# Altium schematic symbol library spacemonochrome-WR_TBL.SchLib: 1696 symbols (part 26 of 28)
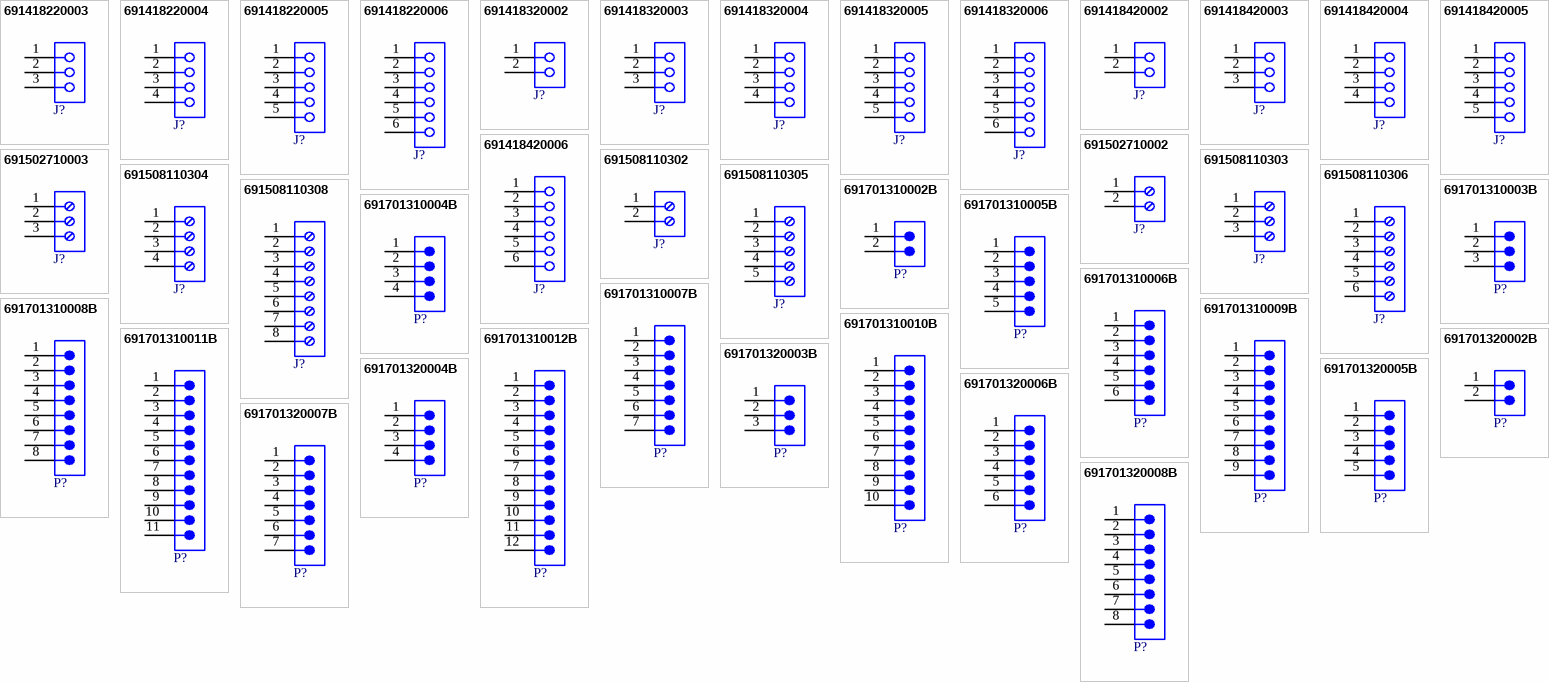
[diagram p67: symbols 691418220003 to 691701320008B]

## 691701320005B
designator P?  (value not drawn)
WR-TBL Series 7013 Vertical PCB Header with Flanges, SMT, pitch 3.81mm, 5p; Manufacturer: Wurth Elektronik; Modularity: No; Rated Current: 10A; Working Voltage: 300V; ComponentLink1Description: Website Link; ComponentLink1URL: https://www.we-online.com/redexpert/article/691701320005B?ad; ComponentLink2Description: Datasheet Link; ComponentLink2URL: https://www.we-online.com/redexpert/spec/691701320005B?ad; Manufacturer Part Number: 691701320005B; Category: Terminal Blocks; Match Code: WR-TBL; Mount: Surface Mount; Operating Temperature Max: 105°C; Operating Temperature Min: -40°C; Packaging: Box; Application: Pluggable; Number of Pins: 5; Number of Rows: 1; Orientation: Vertical; Pitch: 3.81mm
footprint 691701320005B
pins: 1, 2, 3, 4, 5

## 691701320006B
designator P?  (value not drawn)
WR-TBL Series 7013 Vertical PCB Header with Flanges, SMT, pitch 3.81mm, 6p; Manufacturer: Wurth Elektronik; Modularity: No; Rated Current: 10A; Working Voltage: 300V; ComponentLink1Description: Website Link; ComponentLink1URL: https://www.we-online.com/redexpert/article/691701320006B?ad; ComponentLink2Description: Datasheet Link; ComponentLink2URL: https://www.we-online.com/redexpert/spec/691701320006B?ad; Manufacturer Part Number: 691701320006B; Category: Terminal Blocks; Match Code: WR-TBL; Mount: Surface Mount; Operating Temperature Max: 105°C; Operating Temperature Min: -40°C; Packaging: Box; Application: Pluggable; Number of Pins: 6; Number of Rows: 1; Orientation: Vertical; Pitch: 3.81mm
footprint 691701320006B
pins: 1, 2, 3, 4, 5, 6

## 691701320007B
designator P?  (value not drawn)
WR-TBL Series 7013 Vertical PCB Header with Flanges, SMT, pitch 3.81mm, 7p; Manufacturer: Wurth Elektronik; Modularity: No; Rated Current: 10A; Working Voltage: 300V; ComponentLink1Description: Website Link; ComponentLink1URL: https://www.we-online.com/redexpert/article/691701320007B?ad; ComponentLink2Description: Datasheet Link; ComponentLink2URL: https://www.we-online.com/redexpert/spec/691701320007B?ad; Manufacturer Part Number: 691701320007B; Category: Terminal Blocks; Match Code: WR-TBL; Mount: Surface Mount; Operating Temperature Max: 105°C; Operating Temperature Min: -40°C; Packaging: Box; Application: Pluggable; Number of Pins: 7; Number of Rows: 1; Orientation: Vertical; Pitch: 3.81mm
footprint 691701320007B
pins: 1, 2, 3, 4, 5, 6, 7

## 691701320008B
designator P?  (value not drawn)
WR-TBL Series 7013 Vertical PCB Header with Flanges, SMT, pitch 3.81mm, 8p; Manufacturer: Wurth Elektronik; Modularity: No; Rated Current: 10A; Working Voltage: 300V; ComponentLink1Description: Website Link; ComponentLink1URL: https://www.we-online.com/redexpert/article/691701320008B?ad; ComponentLink2Description: Datasheet Link; ComponentLink2URL: https://www.we-online.com/redexpert/spec/691701320008B?ad; Manufacturer Part Number: 691701320008B; Category: Terminal Blocks; Match Code: WR-TBL; Mount: Surface Mount; Operating Temperature Max: 105°C; Operating Temperature Min: -40°C; Packaging: Box; Application: Pluggable; Number of Pins: 8; Number of Rows: 1; Orientation: Vertical; Pitch: 3.81mm
footprint 691701320008B
pins: 1, 2, 3, 4, 5, 6, 7, 8

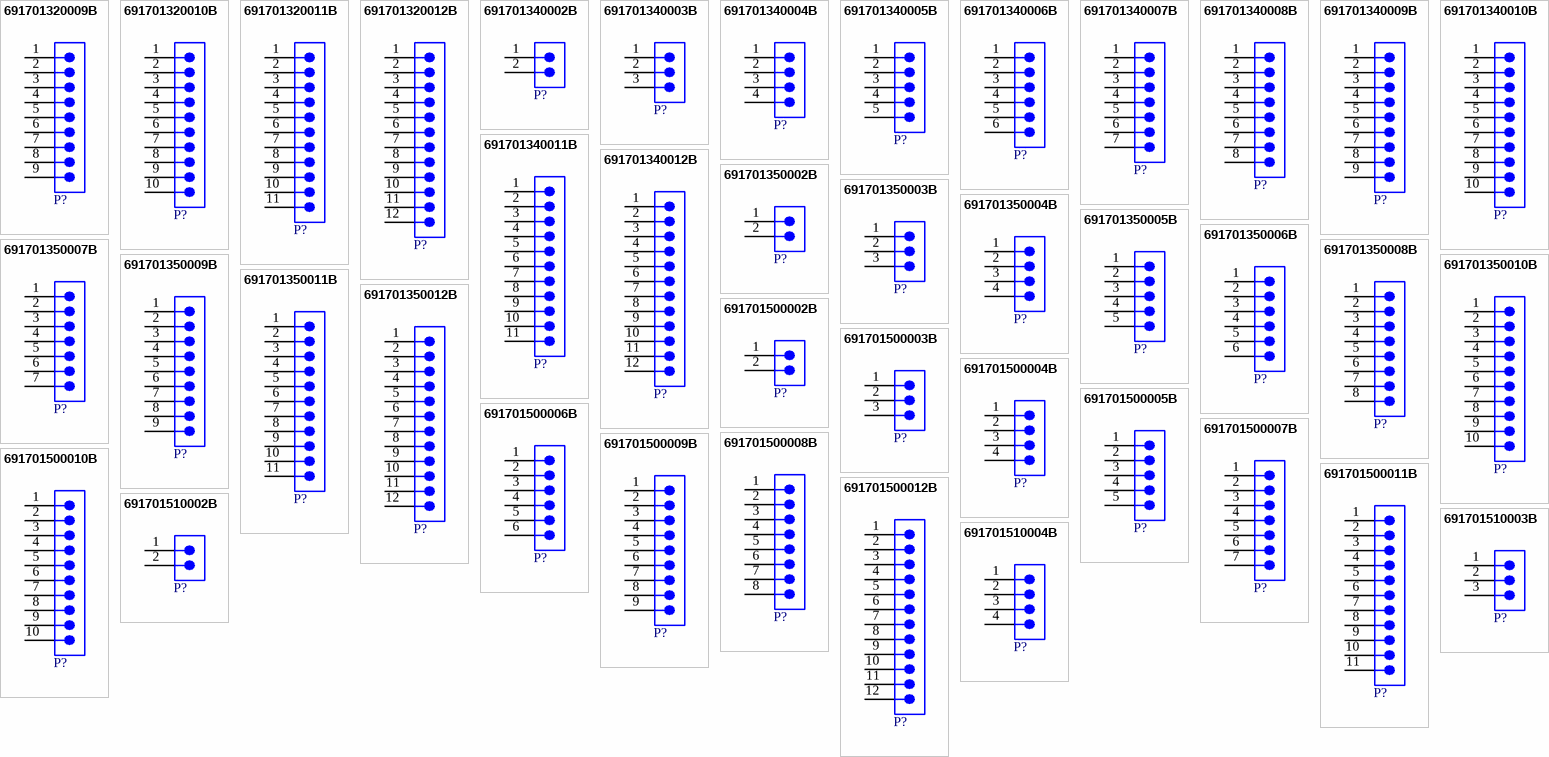
[diagram p39: symbols 691701320009B to 691701510004B]

## 691701320009B
designator P?  (value not drawn)
WR-TBL Series 7013 Vertical PCB Header with Flanges, SMT, pitch 3.81mm, 9p; Manufacturer: Wurth Elektronik; Modularity: No; Rated Current: 10A; Working Voltage: 300V; ComponentLink1Description: Website Link; ComponentLink1URL: https://www.we-online.com/redexpert/article/691701320009B?ad; ComponentLink2Description: Datasheet Link; ComponentLink2URL: https://www.we-online.com/redexpert/spec/691701320009B?ad; Manufacturer Part Number: 691701320009B; Category: Terminal Blocks; Match Code: WR-TBL; Mount: Surface Mount; Operating Temperature Max: 105°C; Operating Temperature Min: -40°C; Packaging: Box; Application: Pluggable; Number of Pins: 9; Number of Rows: 1; Orientation: Vertical; Pitch: 3.81mm
footprint 691701320009B
pins: 1, 2, 3, 4, 5, 6, 7, 8, 9

## 691701320010B
designator P?  (value not drawn)
WR-TBL Series 7013 Vertical PCB Header with Flanges, SMT, pitch 3.81mm, 10p; Manufacturer: Wurth Elektronik; Modularity: No; Rated Current: 10A; Working Voltage: 300V; ComponentLink1Description: Website Link; ComponentLink1URL: https://www.we-online.com/redexpert/article/691701320010B?ad; ComponentLink2Description: Datasheet Link; ComponentLink2URL: https://www.we-online.com/redexpert/spec/691701320010B?ad; Manufacturer Part Number: 691701320010B; Category: Terminal Blocks; Match Code: WR-TBL; Mount: Surface Mount; Operating Temperature Max: 105°C; Operating Temperature Min: -40°C; Packaging: Box; Application: Pluggable; Number of Pins: 10; Number of Rows: 1; Orientation: Vertical; Pitch: 3.81mm
footprint 691701320010B
pins: 1, 2, 3, 4, 5, 6, 7, 8, 9, 10

## 691701320011B
designator P?  (value not drawn)
WR-TBL Series 7013 Vertical PCB Header with Flanges, SMT, pitch 3.81mm, 11p; Manufacturer: Wurth Elektronik; Modularity: No; Rated Current: 10A; Working Voltage: 300V; ComponentLink1Description: Website Link; ComponentLink1URL: https://www.we-online.com/redexpert/article/691701320011B?ad; ComponentLink2Description: Datasheet Link; ComponentLink2URL: https://www.we-online.com/redexpert/spec/691701320011B?ad; Manufacturer Part Number: 691701320011B; Category: Terminal Blocks; Match Code: WR-TBL; Mount: Surface Mount; Operating Temperature Max: 105°C; Operating Temperature Min: -40°C; Packaging: Box; Application: Pluggable; Number of Pins: 11; Number of Rows: 1; Orientation: Vertical; Pitch: 3.81mm
footprint 691701320011B
pins: 1, 2, 3, 4, 5, 6, 7, 8, 9, 10, 11

## 691701320012B
designator P?  (value not drawn)
WR-TBL Series 7013 Vertical PCB Header with Flanges, SMT, pitch 3.81mm, 12p; Manufacturer: Wurth Elektronik; Modularity: No; Rated Current: 10A; Working Voltage: 300V; ComponentLink1Description: Website Link; ComponentLink1URL: https://www.we-online.com/redexpert/article/691701320012B?ad; ComponentLink2Description: Datasheet Link; ComponentLink2URL: https://www.we-online.com/redexpert/spec/691701320012B?ad; Manufacturer Part Number: 691701320012B; Category: Terminal Blocks; Match Code: WR-TBL; Mount: Surface Mount; Operating Temperature Max: 105°C; Operating Temperature Min: -40°C; Packaging: Box; Application: Pluggable; Number of Pins: 12; Number of Rows: 1; Orientation: Vertical; Pitch: 3.81mm
footprint 691701320012B
pins: 1, 2, 3, 4, 5, 6, 7, 8, 9, 10, 11, 12

## 691701340002B
designator P?  (value not drawn)
WR-TBL Series 7013 Horizontal PCB Header, SMT, pitch 3.81mm, 2p; Manufacturer: Wurth Elektronik; Modularity: No; Rated Current: 10A; Working Voltage: 300V; ComponentLink1Description: Website Link; ComponentLink1URL: https://www.we-online.com/redexpert/article/691701340002B?ad; ComponentLink2Description: Datasheet Link; ComponentLink2URL: https://www.we-online.com/redexpert/spec/691701340002B?ad; Manufacturer Part Number: 691701340002B; Category: Terminal Blocks; Match Code: WR-TBL; Mount: Surface Mount; Operating Temperature Max: 105°C; Operating Temperature Min: -40°C; Packaging: Box; Application: Pluggable; Number of Pins: 2; Number of Rows: 1; Orientation: Horizontal; Pitch: 3.81mm
footprint 691701340002B
pins: 1, 2

## 691701340003B
designator P?  (value not drawn)
WR-TBL Series 7013 Horizontal PCB Header, SMT, pitch 3.81mm, 3p; Manufacturer: Wurth Elektronik; Modularity: No; Rated Current: 10A; Working Voltage: 300V; ComponentLink1Description: Website Link; ComponentLink1URL: https://www.we-online.com/redexpert/article/691701340003B?ad; ComponentLink2Description: Datasheet Link; ComponentLink2URL: https://www.we-online.com/redexpert/spec/691701340003B?ad; Manufacturer Part Number: 691701340003B; Category: Terminal Blocks; Match Code: WR-TBL; Mount: Surface Mount; Operating Temperature Max: 105°C; Operating Temperature Min: -40°C; Packaging: Box; Application: Pluggable; Number of Pins: 3; Number of Rows: 1; Orientation: Horizontal; Pitch: 3.81mm
footprint 691701340003B
pins: 1, 2, 3

## 691701340004B
designator P?  (value not drawn)
WR-TBL Series 7013 Horizontal PCB Header, SMT, pitch 3.81mm, 4p; Manufacturer: Wurth Elektronik; Modularity: No; Rated Current: 10A; Working Voltage: 300V; ComponentLink1Description: Website Link; ComponentLink1URL: https://www.we-online.com/redexpert/article/691701340004B?ad; ComponentLink2Description: Datasheet Link; ComponentLink2URL: https://www.we-online.com/redexpert/spec/691701340004B?ad; Manufacturer Part Number: 691701340004B; Category: Terminal Blocks; Match Code: WR-TBL; Mount: Surface Mount; Operating Temperature Max: 105°C; Operating Temperature Min: -40°C; Packaging: Box; Application: Pluggable; Number of Pins: 4; Number of Rows: 1; Orientation: Horizontal; Pitch: 3.81mm
footprint 691701340004B
pins: 1, 2, 3, 4

## 691701340005B
designator P?  (value not drawn)
WR-TBL Series 7013 Horizontal PCB Header, SMT, pitch 3.81mm, 5p; Manufacturer: Wurth Elektronik; Modularity: No; Rated Current: 10A; Working Voltage: 300V; ComponentLink1Description: Website Link; ComponentLink1URL: https://www.we-online.com/redexpert/article/691701340005B?ad; ComponentLink2Description: Datasheet Link; ComponentLink2URL: https://www.we-online.com/redexpert/spec/691701340005B?ad; Manufacturer Part Number: 691701340005B; Category: Terminal Blocks; Match Code: WR-TBL; Mount: Surface Mount; Operating Temperature Max: 105°C; Operating Temperature Min: -40°C; Packaging: Box; Application: Pluggable; Number of Pins: 5; Number of Rows: 1; Orientation: Horizontal; Pitch: 3.81mm
footprint 691701340005B
pins: 1, 2, 3, 4, 5

## 691701340006B
designator P?  (value not drawn)
WR-TBL Series 7013 Horizontal PCB Header, SMT, pitch 3.81mm, 6p; Manufacturer: Wurth Elektronik; Modularity: No; Rated Current: 10A; Working Voltage: 300V; ComponentLink1Description: Website Link; ComponentLink1URL: https://www.we-online.com/redexpert/article/691701340006B?ad; ComponentLink2Description: Datasheet Link; ComponentLink2URL: https://www.we-online.com/redexpert/spec/691701340006B?ad; Manufacturer Part Number: 691701340006B; Category: Terminal Blocks; Match Code: WR-TBL; Mount: Surface Mount; Operating Temperature Max: 105°C; Operating Temperature Min: -40°C; Packaging: Box; Application: Pluggable; Number of Pins: 6; Number of Rows: 1; Orientation: Horizontal; Pitch: 3.81mm
footprint 691701340006B
pins: 1, 2, 3, 4, 5, 6

## 691701340007B
designator P?  (value not drawn)
WR-TBL Series 7013 Horizontal PCB Header, SMT, pitch 3.81mm, 7p; Manufacturer: Wurth Elektronik; Modularity: No; Rated Current: 10A; Working Voltage: 300V; ComponentLink1Description: Website Link; ComponentLink1URL: https://www.we-online.com/redexpert/article/691701340007B?ad; ComponentLink2Description: Datasheet Link; ComponentLink2URL: https://www.we-online.com/redexpert/spec/691701340007B?ad; Manufacturer Part Number: 691701340007B; Category: Terminal Blocks; Match Code: WR-TBL; Mount: Surface Mount; Operating Temperature Max: 105°C; Operating Temperature Min: -40°C; Packaging: Box; Application: Pluggable; Number of Pins: 7; Number of Rows: 1; Orientation: Horizontal; Pitch: 3.81mm
footprint 691701340007B
pins: 1, 2, 3, 4, 5, 6, 7

## 691701340008B
designator P?  (value not drawn)
WR-TBL Series 7013 Horizontal PCB Header, SMT, pitch 3.81mm, 8p; Manufacturer: Wurth Elektronik; Modularity: No; Rated Current: 10A; Working Voltage: 300V; ComponentLink1Description: Website Link; ComponentLink1URL: https://www.we-online.com/redexpert/article/691701340008B?ad; ComponentLink2Description: Datasheet Link; ComponentLink2URL: https://www.we-online.com/redexpert/spec/691701340008B?ad; Manufacturer Part Number: 691701340008B; Category: Terminal Blocks; Match Code: WR-TBL; Mount: Surface Mount; Operating Temperature Max: 105°C; Operating Temperature Min: -40°C; Packaging: Box; Application: Pluggable; Number of Pins: 8; Number of Rows: 1; Orientation: Horizontal; Pitch: 3.81mm
footprint 691701340008B
pins: 1, 2, 3, 4, 5, 6, 7, 8

## 691701340009B
designator P?  (value not drawn)
WR-TBL Series 7013 Horizontal PCB Header, SMT, pitch 3.81mm, 9p; Manufacturer: Wurth Elektronik; Modularity: No; Rated Current: 10A; Working Voltage: 300V; ComponentLink1Description: Website Link; ComponentLink1URL: https://www.we-online.com/redexpert/article/691701340009B?ad; ComponentLink2Description: Datasheet Link; ComponentLink2URL: https://www.we-online.com/redexpert/spec/691701340009B?ad; Manufacturer Part Number: 691701340009B; Category: Terminal Blocks; Match Code: WR-TBL; Mount: Surface Mount; Operating Temperature Max: 105°C; Operating Temperature Min: -40°C; Packaging: Box; Application: Pluggable; Number of Pins: 9; Number of Rows: 1; Orientation: Horizontal; Pitch: 3.81mm
footprint 691701340009B
pins: 1, 2, 3, 4, 5, 6, 7, 8, 9

## 691701340010B
designator P?  (value not drawn)
WR-TBL Series 7013 Horizontal PCB Header, SMT, pitch 3.81mm, 10p; Manufacturer: Wurth Elektronik; Modularity: No; Rated Current: 10A; Working Voltage: 300V; ComponentLink1Description: Website Link; ComponentLink1URL: https://www.we-online.com/redexpert/article/691701340010B?ad; ComponentLink2Description: Datasheet Link; ComponentLink2URL: https://www.we-online.com/redexpert/spec/691701340010B?ad; Manufacturer Part Number: 691701340010B; Category: Terminal Blocks; Match Code: WR-TBL; Mount: Surface Mount; Operating Temperature Max: 105°C; Operating Temperature Min: -40°C; Packaging: Box; Application: Pluggable; Number of Pins: 10; Number of Rows: 1; Orientation: Horizontal; Pitch: 3.81mm
footprint 691701340010B
pins: 1, 2, 3, 4, 5, 6, 7, 8, 9, 10

## 691701340011B
designator P?  (value not drawn)
WR-TBL Series 7013 Horizontal PCB Header, SMT, pitch 3.81mm, 11p; Manufacturer: Wurth Elektronik; Modularity: No; Rated Current: 10A; Working Voltage: 300V; ComponentLink1Description: Website Link; ComponentLink1URL: https://www.we-online.com/redexpert/article/691701340011B?ad; ComponentLink2Description: Datasheet Link; ComponentLink2URL: https://www.we-online.com/redexpert/spec/691701340011B?ad; Manufacturer Part Number: 691701340011B; Category: Terminal Blocks; Match Code: WR-TBL; Mount: Surface Mount; Operating Temperature Max: 105°C; Operating Temperature Min: -40°C; Packaging: Box; Application: Pluggable; Number of Pins: 11; Number of Rows: 1; Orientation: Horizontal; Pitch: 3.81mm
footprint 691701340011B
pins: 1, 2, 3, 4, 5, 6, 7, 8, 9, 10, 11

## 691701340012B
designator P?  (value not drawn)
WR-TBL Series 7013 Horizontal PCB Header, SMT, pitch 3.81mm, 12p; Manufacturer: Wurth Elektronik; Modularity: No; Rated Current: 10A; Working Voltage: 300V; ComponentLink1Description: Website Link; ComponentLink1URL: https://www.we-online.com/redexpert/article/691701340012B?ad; ComponentLink2Description: Datasheet Link; ComponentLink2URL: https://www.we-online.com/redexpert/spec/691701340012B?ad; Manufacturer Part Number: 691701340012B; Category: Terminal Blocks; Match Code: WR-TBL; Mount: Surface Mount; Operating Temperature Max: 105°C; Operating Temperature Min: -40°C; Packaging: Box; Application: Pluggable; Number of Pins: 12; Number of Rows: 1; Orientation: Horizontal; Pitch: 3.81mm
footprint 691701340012B
pins: 1, 2, 3, 4, 5, 6, 7, 8, 9, 10, 11, 12

## 691701350002B
designator P?  (value not drawn)
WR-TBL Series 7013 Horizontal PCB Header with Flanges, SMT, pitch 3.81mm, 2p; Manufacturer: Wurth Elektronik; Modularity: No; Rated Current: 10A; Working Voltage: 300V; ComponentLink1Description: Website Link; ComponentLink1URL: https://www.we-online.com/redexpert/article/691701350002B?ad; ComponentLink2Description: Datasheet Link; ComponentLink2URL: https://www.we-online.com/redexpert/spec/691701350002B?ad; Manufacturer Part Number: 691701350002B; Category: Terminal Blocks; Match Code: WR-TBL; Mount: Surface Mount; Operating Temperature Max: 105°C; Operating Temperature Min: -40°C; Packaging: Box; Application: Pluggable; Number of Pins: 2; Number of Rows: 1; Orientation: Horizontal; Pitch: 3.81mm
footprint 691701350002B
pins: 1, 2

## 691701350003B
designator P?  (value not drawn)
WR-TBL Series 7013 Horizontal PCB Header with Flanges, SMT, pitch 3.81mm, 3p; Manufacturer: Wurth Elektronik; Modularity: No; Rated Current: 10A; Working Voltage: 300V; ComponentLink1Description: Website Link; ComponentLink1URL: https://www.we-online.com/redexpert/article/691701350003B?ad; ComponentLink2Description: Datasheet Link; ComponentLink2URL: https://www.we-online.com/redexpert/spec/691701350003B?ad; Manufacturer Part Number: 691701350003B; Category: Terminal Blocks; Match Code: WR-TBL; Mount: Surface Mount; Operating Temperature Max: 105°C; Operating Temperature Min: -40°C; Packaging: Box; Application: Pluggable; Number of Pins: 3; Number of Rows: 1; Orientation: Horizontal; Pitch: 3.81mm
footprint 691701350003B
pins: 1, 2, 3

## 691701350004B
designator P?  (value not drawn)
WR-TBL Series 7013 Horizontal PCB Header with Flanges, SMT, pitch 3.81mm, 4p; Manufacturer: Wurth Elektronik; Modularity: No; Rated Current: 10A; Working Voltage: 300V; ComponentLink1Description: Website Link; ComponentLink1URL: https://www.we-online.com/redexpert/article/691701350004B?ad; ComponentLink2Description: Datasheet Link; ComponentLink2URL: https://www.we-online.com/redexpert/spec/691701350004B?ad; Manufacturer Part Number: 691701350004B; Category: Terminal Blocks; Match Code: WR-TBL; Mount: Surface Mount; Operating Temperature Max: 105°C; Operating Temperature Min: -40°C; Packaging: Box; Application: Pluggable; Number of Pins: 4; Number of Rows: 1; Orientation: Horizontal; Pitch: 3.81mm
footprint 691701350004B
pins: 1, 2, 3, 4

## 691701350005B
designator P?  (value not drawn)
WR-TBL Series 7013 Horizontal PCB Header with Flanges, SMT, pitch 3.81mm, 5p; Manufacturer: Wurth Elektronik; Modularity: No; Rated Current: 10A; Working Voltage: 300V; ComponentLink1Description: Website Link; ComponentLink1URL: https://www.we-online.com/redexpert/article/691701350005B?ad; ComponentLink2Description: Datasheet Link; ComponentLink2URL: https://www.we-online.com/redexpert/spec/691701350005B?ad; Manufacturer Part Number: 691701350005B; Category: Terminal Blocks; Match Code: WR-TBL; Mount: Surface Mount; Operating Temperature Max: 105°C; Operating Temperature Min: -40°C; Packaging: Box; Application: Pluggable; Number of Pins: 5; Number of Rows: 1; Orientation: Horizontal; Pitch: 3.81mm
footprint 691701350005B
pins: 1, 2, 3, 4, 5

## 691701350006B
designator P?  (value not drawn)
WR-TBL Series 7013 Horizontal PCB Header with Flanges, SMT, pitch 3.81mm, 6p; Manufacturer: Wurth Elektronik; Modularity: No; Rated Current: 10A; Working Voltage: 300V; ComponentLink1Description: Website Link; ComponentLink1URL: https://www.we-online.com/redexpert/article/691701350006B?ad; ComponentLink2Description: Datasheet Link; ComponentLink2URL: https://www.we-online.com/redexpert/spec/691701350006B?ad; Manufacturer Part Number: 691701350006B; Category: Terminal Blocks; Match Code: WR-TBL; Mount: Surface Mount; Operating Temperature Max: 105°C; Operating Temperature Min: -40°C; Packaging: Box; Application: Pluggable; Number of Pins: 6; Number of Rows: 1; Orientation: Horizontal; Pitch: 3.81mm
footprint 691701350006B
pins: 1, 2, 3, 4, 5, 6

## 691701350007B
designator P?  (value not drawn)
WR-TBL Series 7013 Horizontal PCB Header with Flanges, SMT, pitch 3.81mm, 7p; Manufacturer: Wurth Elektronik; Modularity: No; Rated Current: 10A; Working Voltage: 300V; ComponentLink1Description: Website Link; ComponentLink1URL: https://www.we-online.com/redexpert/article/691701350007B?ad; ComponentLink2Description: Datasheet Link; ComponentLink2URL: https://www.we-online.com/redexpert/spec/691701350007B?ad; Manufacturer Part Number: 691701350007B; Category: Terminal Blocks; Match Code: WR-TBL; Mount: Surface Mount; Operating Temperature Max: 105°C; Operating Temperature Min: -40°C; Packaging: Box; Application: Pluggable; Number of Pins: 7; Number of Rows: 1; Orientation: Horizontal; Pitch: 3.81mm
footprint 691701350007B
pins: 1, 2, 3, 4, 5, 6, 7

## 691701350008B
designator P?  (value not drawn)
WR-TBL Series 7013 Horizontal PCB Header with Flanges, SMT, pitch 3.81mm, 8p; Manufacturer: Wurth Elektronik; Modularity: No; Rated Current: 10A; Working Voltage: 300V; ComponentLink1Description: Website Link; ComponentLink1URL: https://www.we-online.com/redexpert/article/691701350008B?ad; ComponentLink2Description: Datasheet Link; ComponentLink2URL: https://www.we-online.com/redexpert/spec/691701350008B?ad; Manufacturer Part Number: 691701350008B; Category: Terminal Blocks; Match Code: WR-TBL; Mount: Surface Mount; Operating Temperature Max: 105°C; Operating Temperature Min: -40°C; Packaging: Box; Application: Pluggable; Number of Pins: 8; Number of Rows: 1; Orientation: Horizontal; Pitch: 3.81mm
footprint 691701350008B
pins: 1, 2, 3, 4, 5, 6, 7, 8

## 691701350009B
designator P?  (value not drawn)
WR-TBL Series 7013 Horizontal PCB Header with Flanges, SMT, pitch 3.81mm, 9p; Manufacturer: Wurth Elektronik; Modularity: No; Rated Current: 10A; Working Voltage: 300V; ComponentLink1Description: Website Link; ComponentLink1URL: https://www.we-online.com/redexpert/article/691701350009B?ad; ComponentLink2Description: Datasheet Link; ComponentLink2URL: https://www.we-online.com/redexpert/spec/691701350009B?ad; Manufacturer Part Number: 691701350009B; Category: Terminal Blocks; Match Code: WR-TBL; Mount: Surface Mount; Operating Temperature Max: 105°C; Operating Temperature Min: -40°C; Packaging: Box; Application: Pluggable; Number of Pins: 9; Number of Rows: 1; Orientation: Horizontal; Pitch: 3.81mm
footprint 691701350009B
pins: 1, 2, 3, 4, 5, 6, 7, 8, 9

## 691701350010B
designator P?  (value not drawn)
WR-TBL Series 7013 Horizontal PCB Header with Flanges, SMT, pitch 3.81mm, 10p; Manufacturer: Wurth Elektronik; Modularity: No; Rated Current: 10A; Working Voltage: 300V; ComponentLink1Description: Website Link; ComponentLink1URL: https://www.we-online.com/redexpert/article/691701350010B?ad; ComponentLink2Description: Datasheet Link; ComponentLink2URL: https://www.we-online.com/redexpert/spec/691701350010B?ad; Manufacturer Part Number: 691701350010B; Category: Terminal Blocks; Match Code: WR-TBL; Mount: Surface Mount; Operating Temperature Max: 105°C; Operating Temperature Min: -40°C; Packaging: Box; Application: Pluggable; Number of Pins: 10; Number of Rows: 1; Orientation: Horizontal; Pitch: 3.81mm
footprint 691701350010B
pins: 1, 2, 3, 4, 5, 6, 7, 8, 9, 10

## 691701350011B
designator P?  (value not drawn)
WR-TBL Series 7013 Horizontal PCB Header with Flanges, SMT, pitch 3.81mm, 11p; Manufacturer: Wurth Elektronik; Modularity: No; Rated Current: 10A; Working Voltage: 300V; ComponentLink1Description: Website Link; ComponentLink1URL: https://www.we-online.com/redexpert/article/691701350011B?ad; ComponentLink2Description: Datasheet Link; ComponentLink2URL: https://www.we-online.com/redexpert/spec/691701350011B?ad; Manufacturer Part Number: 691701350011B; Category: Terminal Blocks; Match Code: WR-TBL; Mount: Surface Mount; Operating Temperature Max: 105°C; Operating Temperature Min: -40°C; Packaging: Box; Application: Pluggable; Number of Pins: 11; Number of Rows: 1; Orientation: Horizontal; Pitch: 3.81mm
footprint 691701350011B
pins: 1, 2, 3, 4, 5, 6, 7, 8, 9, 10, 11

## 691701350012B
designator P?  (value not drawn)
WR-TBL Series 7013 Horizontal PCB Header with Flanges, SMT, pitch 3.81mm, 12p; Manufacturer: Wurth Elektronik; Modularity: No; Rated Current: 10A; Working Voltage: 300V; ComponentLink1Description: Website Link; ComponentLink1URL: https://www.we-online.com/redexpert/article/691701350012B?ad; ComponentLink2Description: Datasheet Link; ComponentLink2URL: https://www.we-online.com/redexpert/spec/691701350012B?ad; Manufacturer Part Number: 691701350012B; Category: Terminal Blocks; Match Code: WR-TBL; Mount: Surface Mount; Operating Temperature Max: 105°C; Operating Temperature Min: -40°C; Packaging: Box; Application: Pluggable; Number of Pins: 12; Number of Rows: 1; Orientation: Horizontal; Pitch: 3.81mm
footprint 691701350012B
pins: 1, 2, 3, 4, 5, 6, 7, 8, 9, 10, 11, 12

## 691701500002B
designator P?  (value not drawn)
WR-TBL Series 7015B Open Vertical PCB Header, SMT, pitch 5.08mm, 2p; Manufacturer: Wurth Elektronik; Modularity: No; Rated Current: 10A; Working Voltage: 300V; ComponentLink1Description: Website Link; ComponentLink1URL: https://www.we-online.com/redexpert/article/691701500002B?ad; ComponentLink2Description: Datasheet Link; ComponentLink2URL: https://www.we-online.com/redexpert/spec/691701500002B?ad; Manufacturer Part Number: 691701500002B; Category: Terminal Blocks; Match Code: WR-TBL; Mount: Surface Mount; Operating Temperature Max: 105°C; Operating Temperature Min: -40°C; Packaging: Box; Application: Pluggable; Number of Pins: 2; Number of Rows: 1; Orientation: Vertical; Pitch: 5.08mm
footprint 691701500002B
pins: 1, 2

## 691701500003B
designator P?  (value not drawn)
WR-TBL Series 7015B Open Vertical PCB Header, SMT, pitch 5.08mm, 3p; Manufacturer: Wurth Elektronik; Modularity: No; Rated Current: 10A; Working Voltage: 300V; ComponentLink1Description: Website Link; ComponentLink1URL: https://www.we-online.com/redexpert/article/691701500003B?ad; ComponentLink2Description: Datasheet Link; ComponentLink2URL: https://www.we-online.com/redexpert/spec/691701500003B?ad; Manufacturer Part Number: 691701500003B; Category: Terminal Blocks; Match Code: WR-TBL; Mount: Surface Mount; Operating Temperature Max: 105°C; Operating Temperature Min: -40°C; Packaging: Box; Application: Pluggable; Number of Pins: 3; Number of Rows: 1; Orientation: Vertical; Pitch: 5.08mm
footprint 691701500003B
pins: 1, 2, 3

## 691701500004B
designator P?  (value not drawn)
WR-TBL Series 7015B Open Vertical PCB Header, SMT, pitch 5.08mm, 4p; Manufacturer: Wurth Elektronik; Modularity: No; Rated Current: 10A; Working Voltage: 300V; ComponentLink1Description: Website Link; ComponentLink1URL: https://www.we-online.com/redexpert/article/691701500004B?ad; ComponentLink2Description: Datasheet Link; ComponentLink2URL: https://www.we-online.com/redexpert/spec/691701500004B?ad; Manufacturer Part Number: 691701500004B; Category: Terminal Blocks; Match Code: WR-TBL; Mount: Surface Mount; Operating Temperature Max: 105°C; Operating Temperature Min: -40°C; Packaging: Box; Application: Pluggable; Number of Pins: 4; Number of Rows: 1; Orientation: Vertical; Pitch: 5.08mm
footprint 691701500004B
pins: 1, 2, 3, 4

## 691701500005B
designator P?  (value not drawn)
WR-TBL Series 7015B Open Vertical PCB Header, SMT, pitch 5.08mm, 5p; Manufacturer: Wurth Elektronik; Modularity: No; Rated Current: 10A; Working Voltage: 300V; ComponentLink1Description: Website Link; ComponentLink1URL: https://www.we-online.com/redexpert/article/691701500005B?ad; ComponentLink2Description: Datasheet Link; ComponentLink2URL: https://www.we-online.com/redexpert/spec/691701500005B?ad; Manufacturer Part Number: 691701500005B; Category: Terminal Blocks; Match Code: WR-TBL; Mount: Surface Mount; Operating Temperature Max: 105°C; Operating Temperature Min: -40°C; Packaging: Box; Application: Pluggable; Number of Pins: 5; Number of Rows: 1; Orientation: Vertical; Pitch: 5.08mm
footprint 691701500005B
pins: 1, 2, 3, 4, 5

## 691701500006B
designator P?  (value not drawn)
WR-TBL Series 7015B Open Vertical PCB Header, SMT, pitch 5.08mm, 6p; Manufacturer: Wurth Elektronik; Modularity: No; Rated Current: 10A; Working Voltage: 300V; ComponentLink1Description: Website Link; ComponentLink1URL: https://www.we-online.com/redexpert/article/691701500006B?ad; ComponentLink2Description: Datasheet Link; ComponentLink2URL: https://www.we-online.com/redexpert/spec/691701500006B?ad; Manufacturer Part Number: 691701500006B; Category: Terminal Blocks; Match Code: WR-TBL; Mount: Surface Mount; Operating Temperature Max: 105°C; Operating Temperature Min: -40°C; Packaging: Box; Application: Pluggable; Number of Pins: 6; Number of Rows: 1; Orientation: Vertical; Pitch: 5.08mm
footprint 691701500006B
pins: 1, 2, 3, 4, 5, 6

## 691701500007B
designator P?  (value not drawn)
WR-TBL Series 7015B Open Vertical PCB Header, SMT, pitch 5.08mm, 7p; Manufacturer: Wurth Elektronik; Modularity: No; Rated Current: 10A; Working Voltage: 300V; ComponentLink1Description: Website Link; ComponentLink1URL: https://www.we-online.com/redexpert/article/691701500007B?ad; ComponentLink2Description: Datasheet Link; ComponentLink2URL: https://www.we-online.com/redexpert/spec/691701500007B?ad; Manufacturer Part Number: 691701500007B; Category: Terminal Blocks; Match Code: WR-TBL; Mount: Surface Mount; Operating Temperature Max: 105°C; Operating Temperature Min: -40°C; Packaging: Box; Application: Pluggable; Number of Pins: 7; Number of Rows: 1; Orientation: Vertical; Pitch: 5.08mm
footprint 691701500007B
pins: 1, 2, 3, 4, 5, 6, 7

## 691701500008B
designator P?  (value not drawn)
WR-TBL Series 7015B Open Vertical PCB Header, SMT, pitch 5.08mm, 8p; Manufacturer: Wurth Elektronik; Modularity: No; Rated Current: 10A; Working Voltage: 300V; ComponentLink1Description: Website Link; ComponentLink1URL: https://www.we-online.com/redexpert/article/691701500008B?ad; ComponentLink2Description: Datasheet Link; ComponentLink2URL: https://www.we-online.com/redexpert/spec/691701500008B?ad; Manufacturer Part Number: 691701500008B; Category: Terminal Blocks; Match Code: WR-TBL; Mount: Surface Mount; Operating Temperature Max: 105°C; Operating Temperature Min: -40°C; Packaging: Box; Application: Pluggable; Number of Pins: 8; Number of Rows: 1; Orientation: Vertical; Pitch: 5.08mm
footprint 691701500008B
pins: 1, 2, 3, 4, 5, 6, 7, 8

## 691701500009B
designator P?  (value not drawn)
WR-TBL Series 7015B Open Vertical PCB Header, SMT, pitch 5.08mm, 9p; Manufacturer: Wurth Elektronik; Modularity: No; Rated Current: 10A; Working Voltage: 300V; ComponentLink1Description: Website Link; ComponentLink1URL: https://www.we-online.com/redexpert/article/691701500009B?ad; ComponentLink2Description: Datasheet Link; ComponentLink2URL: https://www.we-online.com/redexpert/spec/691701500009B?ad; Manufacturer Part Number: 691701500009B; Category: Terminal Blocks; Match Code: WR-TBL; Mount: Surface Mount; Operating Temperature Max: 105°C; Operating Temperature Min: -40°C; Packaging: Box; Application: Pluggable; Number of Pins: 9; Number of Rows: 1; Orientation: Vertical; Pitch: 5.08mm
footprint 691701500009B
pins: 1, 2, 3, 4, 5, 6, 7, 8, 9

## 691701500010B
designator P?  (value not drawn)
WR-TBL Series 7015B Open Vertical PCB Header, SMT, pitch 5.08mm, 10p; Manufacturer: Wurth Elektronik; Modularity: No; Rated Current: 10A; Working Voltage: 300V; ComponentLink1Description: Website Link; ComponentLink1URL: https://www.we-online.com/redexpert/article/691701500010B?ad; ComponentLink2Description: Datasheet Link; ComponentLink2URL: https://www.we-online.com/redexpert/spec/691701500010B?ad; Manufacturer Part Number: 691701500010B; Category: Terminal Blocks; Match Code: WR-TBL; Mount: Surface Mount; Operating Temperature Max: 105°C; Operating Temperature Min: -40°C; Packaging: Box; Application: Pluggable; Number of Pins: 10; Number of Rows: 1; Orientation: Vertical; Pitch: 5.08mm
footprint 691701500010B
pins: 1, 2, 3, 4, 5, 6, 7, 8, 9, 10

## 691701500011B
designator P?  (value not drawn)
WR-TBL Series 7015B Open Vertical PCB Header, SMT, pitch 5.08mm, 11p; Manufacturer: Wurth Elektronik; Modularity: No; Rated Current: 10A; Working Voltage: 300V; ComponentLink1Description: Website Link; ComponentLink1URL: https://www.we-online.com/redexpert/article/691701500011B?ad; ComponentLink2Description: Datasheet Link; ComponentLink2URL: https://www.we-online.com/redexpert/spec/691701500011B?ad; Manufacturer Part Number: 691701500011B; Category: Terminal Blocks; Match Code: WR-TBL; Mount: Surface Mount; Operating Temperature Max: 105°C; Operating Temperature Min: -40°C; Packaging: Box; Application: Pluggable; Number of Pins: 11; Number of Rows: 1; Orientation: Vertical; Pitch: 5.08mm
footprint 691701500011B
pins: 1, 2, 3, 4, 5, 6, 7, 8, 9, 10, 11

## 691701500012B
designator P?  (value not drawn)
WR-TBL Series 7015B Open Vertical PCB Header, SMT, pitch 5.08mm, 12p; Manufacturer: Wurth Elektronik; Modularity: No; Rated Current: 10A; Working Voltage: 300V; ComponentLink1Description: Website Link; ComponentLink1URL: https://www.we-online.com/redexpert/article/691701500012B?ad; ComponentLink2Description: Datasheet Link; ComponentLink2URL: https://www.we-online.com/redexpert/spec/691701500012B?ad; Manufacturer Part Number: 691701500012B; Category: Terminal Blocks; Match Code: WR-TBL; Mount: Surface Mount; Operating Temperature Max: 105°C; Operating Temperature Min: -40°C; Packaging: Box; Application: Pluggable; Number of Pins: 12; Number of Rows: 1; Orientation: Vertical; Pitch: 5.08mm
footprint 691701500012B
pins: 1, 2, 3, 4, 5, 6, 7, 8, 9, 10, 11, 12

## 691701510002B
designator P?  (value not drawn)
WR-TBL Series 7015B Close Vertical PCB Header, SMT, pitch 5.08mm, 2p; Manufacturer: Wurth Elektronik; Modularity: No; Rated Current: 10A; Working Voltage: 300V; ComponentLink1Description: Website Link; ComponentLink1URL: https://www.we-online.com/redexpert/article/691701510002B?ad; ComponentLink2Description: Datasheet Link; ComponentLink2URL: https://www.we-online.com/redexpert/spec/691701510002B?ad; Manufacturer Part Number: 691701510002B; Category: Terminal Blocks; Match Code: WR-TBL; Mount: Surface Mount; Operating Temperature Max: 105°C; Operating Temperature Min: -40°C; Packaging: Box; Application: Pluggable; Number of Pins: 2; Number of Rows: 1; Orientation: Vertical; Pitch: 5.08mm
footprint 691701510002B
pins: 1, 2

## 691701510003B
designator P?  (value not drawn)
WR-TBL Series 7015B Close Vertical PCB Header, SMT, pitch 5.08mm, 3p; Manufacturer: Wurth Elektronik; Modularity: No; Rated Current: 10A; Working Voltage: 300V; ComponentLink1Description: Website Link; ComponentLink1URL: https://www.we-online.com/redexpert/article/691701510003B?ad; ComponentLink2Description: Datasheet Link; ComponentLink2URL: https://www.we-online.com/redexpert/spec/691701510003B?ad; Manufacturer Part Number: 691701510003B; Category: Terminal Blocks; Match Code: WR-TBL; Mount: Surface Mount; Operating Temperature Max: 105°C; Operating Temperature Min: -40°C; Packaging: Box; Application: Pluggable; Number of Pins: 3; Number of Rows: 1; Orientation: Vertical; Pitch: 5.08mm
footprint 691701510003B
pins: 1, 2, 3

## 691701510004B
designator P?  (value not drawn)
WR-TBL Series 7015B Close Vertical PCB Header, SMT, pitch 5.08mm, 4p; Manufacturer: Wurth Elektronik; Modularity: No; Rated Current: 10A; Working Voltage: 300V; ComponentLink1Description: Website Link; ComponentLink1URL: https://www.we-online.com/redexpert/article/691701510004B?ad; ComponentLink2Description: Datasheet Link; ComponentLink2URL: https://www.we-online.com/redexpert/spec/691701510004B?ad; Manufacturer Part Number: 691701510004B; Category: Terminal Blocks; Match Code: WR-TBL; Mount: Surface Mount; Operating Temperature Max: 105°C; Operating Temperature Min: -40°C; Packaging: Box; Application: Pluggable; Number of Pins: 4; Number of Rows: 1; Orientation: Vertical; Pitch: 5.08mm
footprint 691701510004B
pins: 1, 2, 3, 4

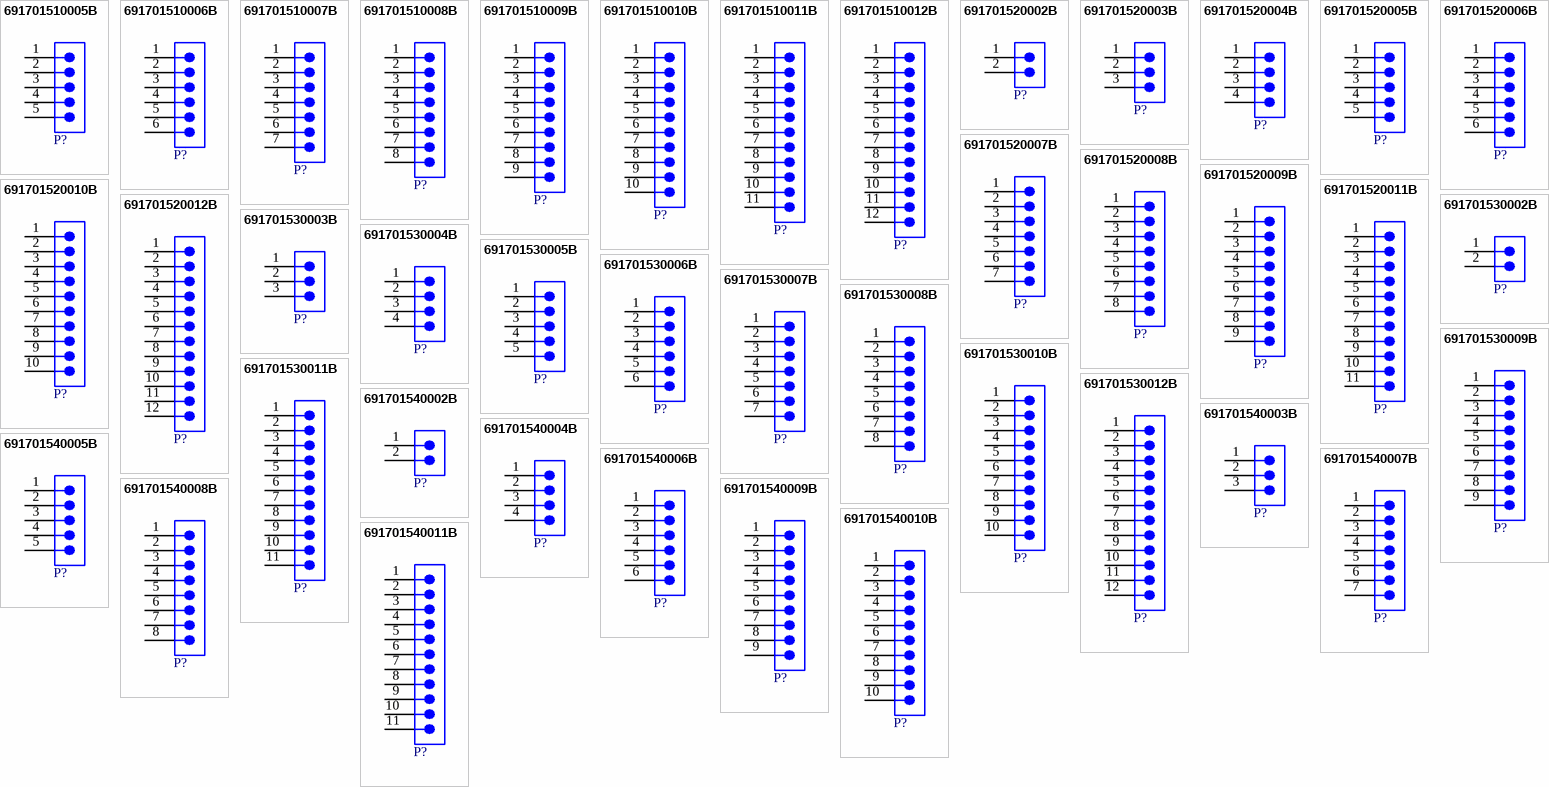
[diagram p40: symbols 691701510005B to 691701540011B]

## 691701510005B
designator P?  (value not drawn)
WR-TBL Series 7015B Close Vertical PCB Header, SMT, pitch 5.08mm, 5p; Manufacturer: Wurth Elektronik; Modularity: No; Rated Current: 10A; Working Voltage: 300V; ComponentLink1Description: Website Link; ComponentLink1URL: https://www.we-online.com/redexpert/article/691701510005B?ad; ComponentLink2Description: Datasheet Link; ComponentLink2URL: https://www.we-online.com/redexpert/spec/691701510005B?ad; Manufacturer Part Number: 691701510005B; Category: Terminal Blocks; Match Code: WR-TBL; Mount: Surface Mount; Operating Temperature Max: 105°C; Operating Temperature Min: -40°C; Packaging: Box; Application: Pluggable; Number of Pins: 5; Number of Rows: 1; Orientation: Vertical; Pitch: 5.08mm
footprint 691701510005B
pins: 1, 2, 3, 4, 5

## 691701510006B
designator P?  (value not drawn)
WR-TBL Series 7015B Close Vertical PCB Header, SMT, pitch 5.08mm, 6p; Manufacturer: Wurth Elektronik; Modularity: No; Rated Current: 10A; Working Voltage: 300V; ComponentLink1Description: Website Link; ComponentLink1URL: https://www.we-online.com/redexpert/article/691701510006B?ad; ComponentLink2Description: Datasheet Link; ComponentLink2URL: https://www.we-online.com/redexpert/spec/691701510006B?ad; Manufacturer Part Number: 691701510006B; Category: Terminal Blocks; Match Code: WR-TBL; Mount: Surface Mount; Operating Temperature Max: 105°C; Operating Temperature Min: -40°C; Packaging: Box; Application: Pluggable; Number of Pins: 6; Number of Rows: 1; Orientation: Vertical; Pitch: 5.08mm
footprint 691701510006B
pins: 1, 2, 3, 4, 5, 6

## 691701510007B
designator P?  (value not drawn)
WR-TBL Series 7015B Close Vertical PCB Header, SMT, pitch 5.08mm, 7p; Manufacturer: Wurth Elektronik; Modularity: No; Rated Current: 10A; Working Voltage: 300V; ComponentLink1Description: Website Link; ComponentLink1URL: https://www.we-online.com/redexpert/article/691701510007B?ad; ComponentLink2Description: Datasheet Link; ComponentLink2URL: https://www.we-online.com/redexpert/spec/691701510007B?ad; Manufacturer Part Number: 691701510007B; Category: Terminal Blocks; Match Code: WR-TBL; Mount: Surface Mount; Operating Temperature Max: 105°C; Operating Temperature Min: -40°C; Packaging: Box; Application: Pluggable; Number of Pins: 7; Number of Rows: 1; Orientation: Vertical; Pitch: 5.08mm
footprint 691701510007B
pins: 1, 2, 3, 4, 5, 6, 7

## 691701510008B
designator P?  (value not drawn)
WR-TBL Series 7015B Close Vertical PCB Header, SMT, pitch 5.08mm, 8p; Manufacturer: Wurth Elektronik; Modularity: No; Rated Current: 10A; Working Voltage: 300V; ComponentLink1Description: Website Link; ComponentLink1URL: https://www.we-online.com/redexpert/article/691701510008B?ad; ComponentLink2Description: Datasheet Link; ComponentLink2URL: https://www.we-online.com/redexpert/spec/691701510008B?ad; Manufacturer Part Number: 691701510008B; Category: Terminal Blocks; Match Code: WR-TBL; Mount: Surface Mount; Operating Temperature Max: 105°C; Operating Temperature Min: -40°C; Packaging: Box; Application: Pluggable; Number of Pins: 8; Number of Rows: 1; Orientation: Vertical; Pitch: 5.08mm
footprint 691701510008B
pins: 1, 2, 3, 4, 5, 6, 7, 8

## 691701510009B
designator P?  (value not drawn)
WR-TBL Series 7015B Close Vertical PCB Header, SMT, pitch 5.08mm, 9p; Manufacturer: Wurth Elektronik; Modularity: No; Rated Current: 10A; Working Voltage: 300V; ComponentLink1Description: Website Link; ComponentLink1URL: https://www.we-online.com/redexpert/article/691701510009B?ad; ComponentLink2Description: Datasheet Link; ComponentLink2URL: https://www.we-online.com/redexpert/spec/691701510009B?ad; Manufacturer Part Number: 691701510009B; Category: Terminal Blocks; Match Code: WR-TBL; Mount: Surface Mount; Operating Temperature Max: 105°C; Operating Temperature Min: -40°C; Packaging: Box; Application: Pluggable; Number of Pins: 9; Number of Rows: 1; Orientation: Vertical; Pitch: 5.08mm
footprint 691701510009B
pins: 1, 2, 3, 4, 5, 6, 7, 8, 9

## 691701510010B
designator P?  (value not drawn)
WR-TBL Series 7015B Close Vertical PCB Header, SMT, pitch 5.08mm, 10p; Manufacturer: Wurth Elektronik; Modularity: No; Rated Current: 10A; Working Voltage: 300V; ComponentLink1Description: Website Link; ComponentLink1URL: https://www.we-online.com/redexpert/article/691701510010B?ad; ComponentLink2Description: Datasheet Link; ComponentLink2URL: https://www.we-online.com/redexpert/spec/691701510010B?ad; Manufacturer Part Number: 691701510010B; Category: Terminal Blocks; Match Code: WR-TBL; Mount: Surface Mount; Operating Temperature Max: 105°C; Operating Temperature Min: -40°C; Packaging: Box; Application: Pluggable; Number of Pins: 10; Number of Rows: 1; Orientation: Vertical; Pitch: 5.08mm
footprint 691701510010B
pins: 1, 2, 3, 4, 5, 6, 7, 8, 9, 10

## 691701510011B
designator P?  (value not drawn)
WR-TBL Series 7015B Close Vertical PCB Header, SMT, pitch 5.08mm, 11p; Manufacturer: Wurth Elektronik; Modularity: No; Rated Current: 10A; Working Voltage: 300V; ComponentLink1Description: Website Link; ComponentLink1URL: https://www.we-online.com/redexpert/article/691701510011B?ad; ComponentLink2Description: Datasheet Link; ComponentLink2URL: https://www.we-online.com/redexpert/spec/691701510011B?ad; Manufacturer Part Number: 691701510011B; Category: Terminal Blocks; Match Code: WR-TBL; Mount: Surface Mount; Operating Temperature Max: 105°C; Operating Temperature Min: -40°C; Packaging: Box; Application: Pluggable; Number of Pins: 11; Number of Rows: 1; Orientation: Vertical; Pitch: 5.08mm
footprint 691701510011B
pins: 1, 2, 3, 4, 5, 6, 7, 8, 9, 10, 11

## 691701510012B
designator P?  (value not drawn)
WR-TBL Series 7015B Close Vertical PCB Header, SMT, pitch 5.08mm, 12p; Manufacturer: Wurth Elektronik; Modularity: No; Rated Current: 10A; Working Voltage: 300V; ComponentLink1Description: Website Link; ComponentLink1URL: https://www.we-online.com/redexpert/article/691701510012B?ad; ComponentLink2Description: Datasheet Link; ComponentLink2URL: https://www.we-online.com/redexpert/spec/691701510012B?ad; Manufacturer Part Number: 691701510012B; Category: Terminal Blocks; Match Code: WR-TBL; Mount: Surface Mount; Operating Temperature Max: 105°C; Operating Temperature Min: -40°C; Packaging: Box; Application: Pluggable; Number of Pins: 12; Number of Rows: 1; Orientation: Vertical; Pitch: 5.08mm
footprint 691701510012B
pins: 1, 2, 3, 4, 5, 6, 7, 8, 9, 10, 11, 12

## 691701520002B
designator P?  (value not drawn)
WR-TBL Series 7015B Close Vertical PCB Header with Flanges, SMT, pitch 5.08mm, 2p; Manufacturer: Wurth Elektronik; Modularity: No; Rated Current: 10A; Working Voltage: 300V; ComponentLink1Description: Website Link; ComponentLink1URL: https://www.we-online.com/redexpert/article/691701520002B?ad; ComponentLink2Description: Datasheet Link; ComponentLink2URL: https://www.we-online.com/redexpert/spec/691701520002B?ad; Manufacturer Part Number: 691701520002B; Category: Terminal Blocks; Match Code: WR-TBL; Mount: Surface Mount; Operating Temperature Max: 105°C; Operating Temperature Min: -40°C; Packaging: Box; Application: Pluggable; Number of Pins: 2; Number of Rows: 1; Orientation: Vertical; Pitch: 5.08mm
footprint 691701520002B
pins: 1, 2

## 691701520003B
designator P?  (value not drawn)
WR-TBL Series 7015B Close Vertical PCB Header with Flanges, SMT, pitch 5.08mm, 3p; Manufacturer: Wurth Elektronik; Modularity: No; Rated Current: 10A; Working Voltage: 300V; ComponentLink1Description: Website Link; ComponentLink1URL: https://www.we-online.com/redexpert/article/691701520003B?ad; ComponentLink2Description: Datasheet Link; ComponentLink2URL: https://www.we-online.com/redexpert/spec/691701520003B?ad; Manufacturer Part Number: 691701520003B; Category: Terminal Blocks; Match Code: WR-TBL; Mount: Surface Mount; Operating Temperature Max: 105°C; Operating Temperature Min: -40°C; Packaging: Box; Application: Pluggable; Number of Pins: 3; Number of Rows: 1; Orientation: Vertical; Pitch: 5.08mm
footprint 691701520003B
pins: 1, 2, 3

## 691701520004B
designator P?  (value not drawn)
WR-TBL Series 7015B Close Vertical PCB Header with Flanges, SMT, pitch 5.08mm, 4p; Manufacturer: Wurth Elektronik; Modularity: No; Rated Current: 10A; Working Voltage: 300V; ComponentLink1Description: Website Link; ComponentLink1URL: https://www.we-online.com/redexpert/article/691701520004B?ad; ComponentLink2Description: Datasheet Link; ComponentLink2URL: https://www.we-online.com/redexpert/spec/691701520004B?ad; Manufacturer Part Number: 691701520004B; Category: Terminal Blocks; Match Code: WR-TBL; Mount: Surface Mount; Operating Temperature Max: 105°C; Operating Temperature Min: -40°C; Packaging: Box; Application: Pluggable; Number of Pins: 4; Number of Rows: 1; Orientation: Vertical; Pitch: 5.08mm
footprint 691701520004B
pins: 1, 2, 3, 4

## 691701520005B
designator P?  (value not drawn)
WR-TBL Series 7015B Close Vertical PCB Header with Flanges, SMT, pitch 5.08mm, 5p; Manufacturer: Wurth Elektronik; Modularity: No; Rated Current: 10A; Working Voltage: 300V; ComponentLink1Description: Website Link; ComponentLink1URL: https://www.we-online.com/redexpert/article/691701520005B?ad; ComponentLink2Description: Datasheet Link; ComponentLink2URL: https://www.we-online.com/redexpert/spec/691701520005B?ad; Manufacturer Part Number: 691701520005B; Category: Terminal Blocks; Match Code: WR-TBL; Mount: Surface Mount; Operating Temperature Max: 105°C; Operating Temperature Min: -40°C; Packaging: Box; Application: Pluggable; Number of Pins: 5; Number of Rows: 1; Orientation: Vertical; Pitch: 5.08mm
footprint 691701520005B
pins: 1, 2, 3, 4, 5

## 691701520006B
designator P?  (value not drawn)
WR-TBL Series 7015B Close Vertical PCB Header with Flanges, SMT, pitch 5.08mm, 6p; Manufacturer: Wurth Elektronik; Modularity: No; Rated Current: 10A; Working Voltage: 300V; ComponentLink1Description: Website Link; ComponentLink1URL: https://www.we-online.com/redexpert/article/691701520006B?ad; ComponentLink2Description: Datasheet Link; ComponentLink2URL: https://www.we-online.com/redexpert/spec/691701520006B?ad; Manufacturer Part Number: 691701520006B; Category: Terminal Blocks; Match Code: WR-TBL; Mount: Surface Mount; Operating Temperature Max: 105°C; Operating Temperature Min: -40°C; Packaging: Box; Application: Pluggable; Number of Pins: 6; Number of Rows: 1; Orientation: Vertical; Pitch: 5.08mm
footprint 691701520006B
pins: 1, 2, 3, 4, 5, 6

## 691701520007B
designator P?  (value not drawn)
WR-TBL Series 7015B Close Vertical PCB Header with Flanges, SMT, pitch 5.08mm, 7p; Manufacturer: Wurth Elektronik; Modularity: No; Rated Current: 10A; Working Voltage: 300V; ComponentLink1Description: Website Link; ComponentLink1URL: https://www.we-online.com/redexpert/article/691701520007B?ad; ComponentLink2Description: Datasheet Link; ComponentLink2URL: https://www.we-online.com/redexpert/spec/691701520007B?ad; Manufacturer Part Number: 691701520007B; Category: Terminal Blocks; Match Code: WR-TBL; Mount: Surface Mount; Operating Temperature Max: 105°C; Operating Temperature Min: -40°C; Packaging: Box; Application: Pluggable; Number of Pins: 7; Number of Rows: 1; Orientation: Vertical; Pitch: 5.08mm
footprint 691701520007B
pins: 1, 2, 3, 4, 5, 6, 7

## 691701520008B
designator P?  (value not drawn)
WR-TBL Series 7015B Close Vertical PCB Header with Flanges, SMT, pitch 5.08mm, 8p; Manufacturer: Wurth Elektronik; Modularity: No; Rated Current: 10A; Working Voltage: 300V; ComponentLink1Description: Website Link; ComponentLink1URL: https://www.we-online.com/redexpert/article/691701520008B?ad; ComponentLink2Description: Datasheet Link; ComponentLink2URL: https://www.we-online.com/redexpert/spec/691701520008B?ad; Manufacturer Part Number: 691701520008B; Category: Terminal Blocks; Match Code: WR-TBL; Mount: Surface Mount; Operating Temperature Max: 105°C; Operating Temperature Min: -40°C; Packaging: Box; Application: Pluggable; Number of Pins: 8; Number of Rows: 1; Orientation: Vertical; Pitch: 5.08mm
footprint 691701520008B
pins: 1, 2, 3, 4, 5, 6, 7, 8

## 691701520009B
designator P?  (value not drawn)
WR-TBL Series 7015B Close Vertical PCB Header with Flanges, SMT, pitch 5.08mm, 9p; Manufacturer: Wurth Elektronik; Modularity: No; Rated Current: 10A; Working Voltage: 300V; ComponentLink1Description: Website Link; ComponentLink1URL: https://www.we-online.com/redexpert/article/691701520009B?ad; ComponentLink2Description: Datasheet Link; ComponentLink2URL: https://www.we-online.com/redexpert/spec/691701520009B?ad; Manufacturer Part Number: 691701520009B; Category: Terminal Blocks; Match Code: WR-TBL; Mount: Surface Mount; Operating Temperature Max: 105°C; Operating Temperature Min: -40°C; Packaging: Box; Application: Pluggable; Number of Pins: 9; Number of Rows: 1; Orientation: Vertical; Pitch: 5.08mm
footprint 691701520009B
pins: 1, 2, 3, 4, 5, 6, 7, 8, 9

## 691701520010B
designator P?  (value not drawn)
WR-TBL Series 7015B Close Vertical PCB Header with Flanges, SMT, pitch 5.08mm, 10p; Manufacturer: Wurth Elektronik; Modularity: No; Rated Current: 10A; Working Voltage: 300V; ComponentLink1Description: Website Link; ComponentLink1URL: https://www.we-online.com/redexpert/article/691701520010B?ad; ComponentLink2Description: Datasheet Link; ComponentLink2URL: https://www.we-online.com/redexpert/spec/691701520010B?ad; Manufacturer Part Number: 691701520010B; Category: Terminal Blocks; Match Code: WR-TBL; Mount: Surface Mount; Operating Temperature Max: 105°C; Operating Temperature Min: -40°C; Packaging: Box; Application: Pluggable; Number of Pins: 10; Number of Rows: 1; Orientation: Vertical; Pitch: 5.08mm
footprint 691701520010B
pins: 1, 2, 3, 4, 5, 6, 7, 8, 9, 10

## 691701520011B
designator P?  (value not drawn)
WR-TBL Series 7015B Close Vertical PCB Header with Flanges, SMT, pitch 5.08mm, 11p; Manufacturer: Wurth Elektronik; Modularity: No; Rated Current: 10A; Working Voltage: 300V; ComponentLink1Description: Website Link; ComponentLink1URL: https://www.we-online.com/redexpert/article/691701520011B?ad; ComponentLink2Description: Datasheet Link; ComponentLink2URL: https://www.we-online.com/redexpert/spec/691701520011B?ad; Manufacturer Part Number: 691701520011B; Category: Terminal Blocks; Match Code: WR-TBL; Mount: Surface Mount; Operating Temperature Max: 105°C; Operating Temperature Min: -40°C; Packaging: Box; Application: Pluggable; Number of Pins: 11; Number of Rows: 1; Orientation: Vertical; Pitch: 5.08mm
footprint 691701520011B
pins: 1, 2, 3, 4, 5, 6, 7, 8, 9, 10, 11